# Altium footprint library SMSA 2805.PcbLib: 1 footprints
Each footprint in its own frame and in the unit in brackets; x right, y up, seen from the top. Pads: shape width x height; smd on the part's side, far side on the other; paste and mask are expansions set on the pad; w line width, h text height; cw(c..) or ccw(c..) is an arc to the next point about the centre after c.
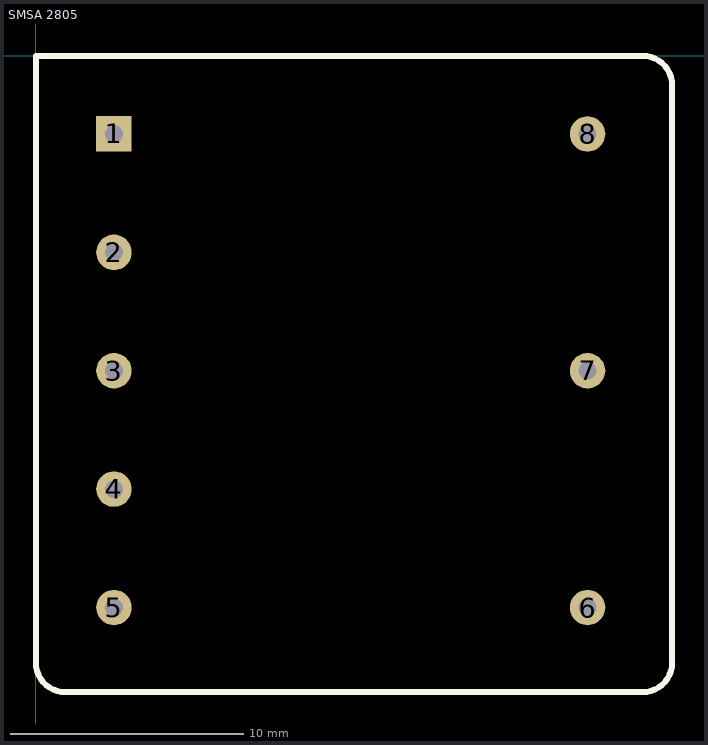
[diagram p0: the footprint, top view; thin cyan lines are the x and y axes]

## SMSA 2805 [mil]
pads (8):
  rect 60x60 hole 30: 1(132,-132)
  round 60 hole 30: 2(132,-332) 3(132,-532) 4(132,-732) 5(132,-932) 6(932,-932) 7(932,-532) 8(932,-132)
Top Overlay:
  lines w10: 0,-1025 ccw(c50,-1025) 50,-1075 1025,-1075 ccw(c1025,-1025) 1075,-1025 1075,-50 ccw(c1025,-50) 1025,0 0,0 0,-1025
3D body: height 270, standoff 0, extent 0,-1075 1075,0